# Altium footprint library ERA8KEB1004V.PcbLib: 1 footprints
Each footprint in its own frame and in the unit in brackets; x right, y up, seen from the top. Pads: shape width x height; smd on the part's side, far side on the other; paste and mask are expansions set on the pad; w line width, h text height; cw(c..) or ccw(c..) is an arc to the next point about the centre after c.
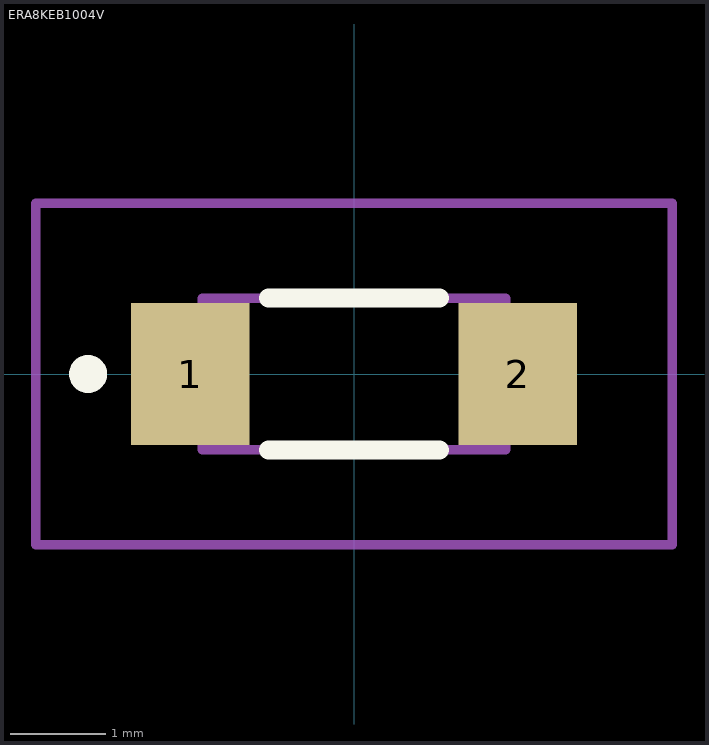
[diagram p0: the footprint, top view; thin cyan lines are the x and y axes]

## ERA8KEB1004V [mm]
pads (2):
  rect 1.25x1.5 smd: 1(-1.725,0) 2(1.725,0)
Top Overlay:
  lines w0.2: -0.9,-0.8 0.9,-0.8 ; -0.9,0.8 0.9,0.8 ; -2.8,-0.1 cw(c-2.8,0) -2.8,0.1 ; -2.8,-0.1 -2.8,-0.1 ; -2.8,-0.1 ccw(c-2.8,0) -2.8,0.1 ; -2.8,0.1 -2.8,0.1
Mechanical 15:
  lines w0.1: -1.6,-0.8 1.6,-0.8 1.6,0.8 -1.6,0.8 -1.6,-0.8
Mechanical 20:
  lines w0.1: -3.35,-1.8 3.35,-1.8 3.35,1.8 -3.35,1.8 -3.35,-1.8